# EAGLE library part OBD-90 (library 1zac)
SAE J-1962 OBD2 connector
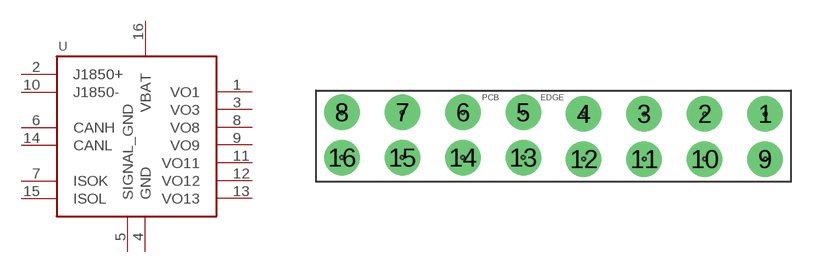
[diagram p10: symbol with the pads of OBD-90; footprint OBD-90]

Designator prefix -

## OBD-90 (EMAIL: sales@cct-elec.com; MPN: CR-pg016; VENDOR: Shenzhen Comtech Electronic Co., Ltd.)  [OBD-90]
1  VO1
2  J1850+
3  VO3
4  GND
5  SIGNAL_GND
6  CANH
7  ISOK
8  VO8
9  VO9
10  J1850-
11  VO11
12  VO12
13  VO13
14  CANL
15  ISOL
16  VBAT

## Footprint OBD-90 (pad centres in mm)
drill 1.35 pad 2.35: 1 28,-0.1; 2 24,-0.1; 3 20,-0.1; 4 16,-0.1; 5 12,0; 6 8,0; 7 4,0; 8 0,0; 9 28,-3.1; 10 24,-3.1; 11 20,-3.1; 12 16,-3.1; 13 12,-3; 14 8,-3; 15 4,-3; 16 0,-3